# Altium footprint library TO-92.PcbLib: 1 footprints
Each footprint in its own frame and in the unit in brackets; x right, y up, seen from the top. Pads: shape width x height; smd on the part's side, far side on the other; paste and mask are expansions set on the pad; w line width, h text height; cw(c..) or ccw(c..) is an arc to the next point about the centre after c.
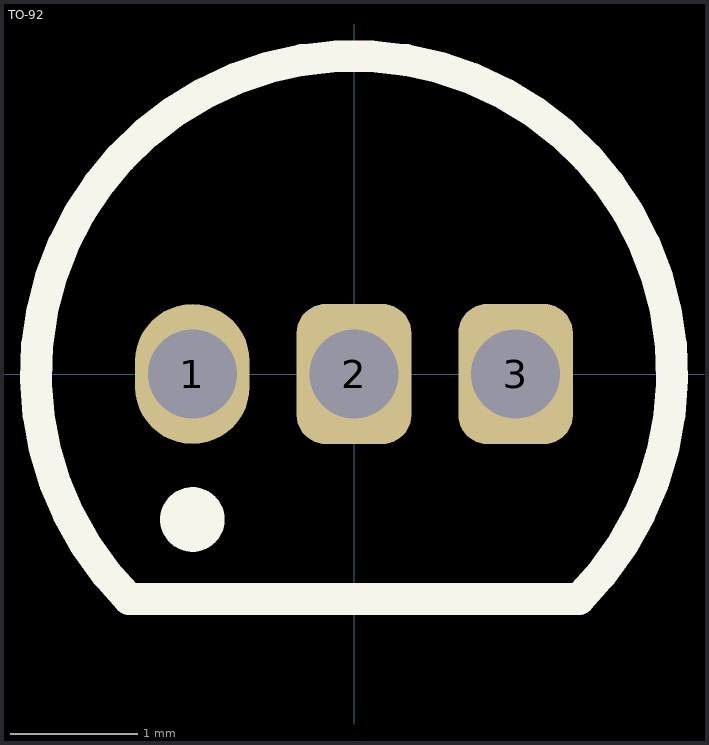
[diagram p0: the footprint, top view; thin cyan lines are the x and y axes]

## TO-92 [mm] "TO-92"
pads (3):
  oval 0.9x1.1 hole 0.7: 1(-1.27,0)
  rrect50% 0.9x1.1 hole 0.7: 2(0,0) 3(1.27,0)
Top Overlay:
  circle w0.254: c-1.27,-1.143 r0.127
  lines w0.25: -1.768,-1.768 cw(c0,0) 1.768,-1.768
  lines w0.254: -1.768,-1.768 1.768,-1.768
3D body "TO-92.step": height 6, standoff -5, extent -2.4,-1.53 2.4,2.4